# Altium footprint library XTAL_HC49SSDLF-8mHz.PcbLib: 1 footprints
Each footprint in its own frame and in the unit in brackets; x right, y up, seen from the top. Pads: shape width x height; smd on the part's side, far side on the other; paste and mask are expansions set on the pad; w line width, h text height; cw(c..) or ccw(c..) is an arc to the next point about the centre after c.
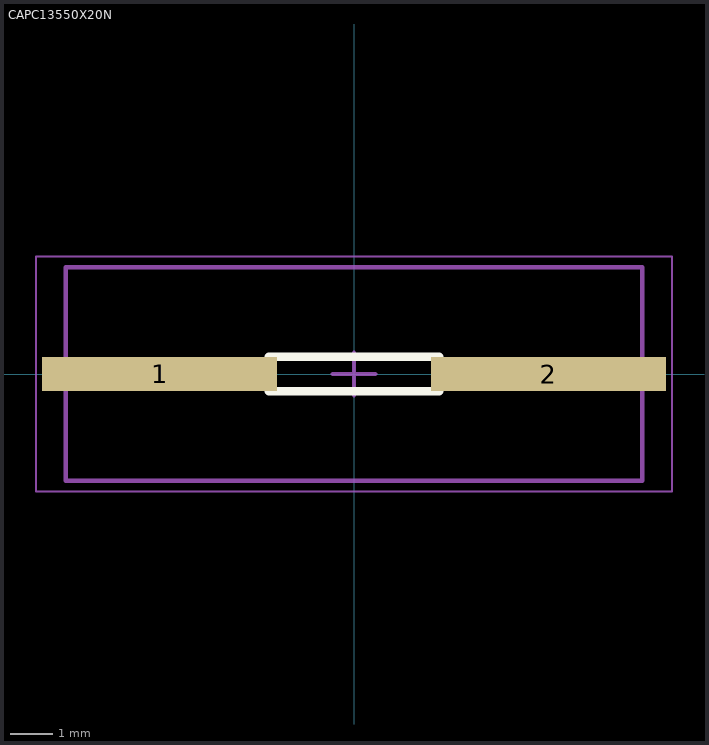
[diagram p0: the footprint, top view; thin cyan lines are the x and y axes]

## CAPC13550X20N [mm] "Chip Capacitor, 2-Leads, Body 13.50x5.00mm, IPC Medium Density"
height 2
pads (2):
  rect 5.5x0.8 smd: 1(-4.55,0) 2(4.55,0)
Top Overlay:
  lines w0.2: -2,-0.4 2,-0.4 ; -2,0.4 2,0.4
Mechanical 13:
  lines w0.1: -6.75,-2.5 6.75,-2.5 6.75,2.5 -6.75,2.5 -6.75,-2.5
Mechanical 15:
  lines w0.05: -7.45,-2.75 7.45,-2.75 7.45,2.75 -7.45,2.75 -7.45,-2.75
  lines w0.1: -0.5,0 0.5,0 ; 0,-0.5 0,0.5
3D body: height 2, standoff 0, extent 4.95,-2.5 6.75,2.5
3D body: height 2, standoff 0, extent -6.75,-2.5 -4.95,2.5
3D body: height 2, standoff 0, extent -4.95,-2.5 4.95,2.5